# EAGLE library part HHM1710D1 (library biomimetic)
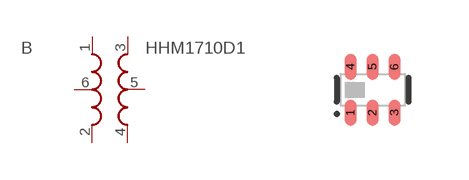
[diagram p10: symbol with the pads of 0603-BALUN; footprint 0603-BALUN]

Designator prefix B

## HHM1710D1  [0603-BALUN]
1  UNBAL
2  RFGND
3  BAL3
4  BAL4
5  GND
6  NC

## Footprint 0603-BALUN (pad centres in mm)
smd 0.3 x 0.65: 1 -0.55,-0.575; 2 0,-0.575; 3 0.55,-0.575; 4 -0.55,0.575; 5 0,0.575; 6 0.55,0.575